# EAGLE library part TCM1-63AX-2+ (library TCM1-63AX-2+)
Audio Transformers / Signal Transformers TC XFMR / SURF MOUNT / RoHS Source: Datasheet <https://www.minicircuits.com/WebStore/dashboardPdf?model=TCM1-63AX-2+>
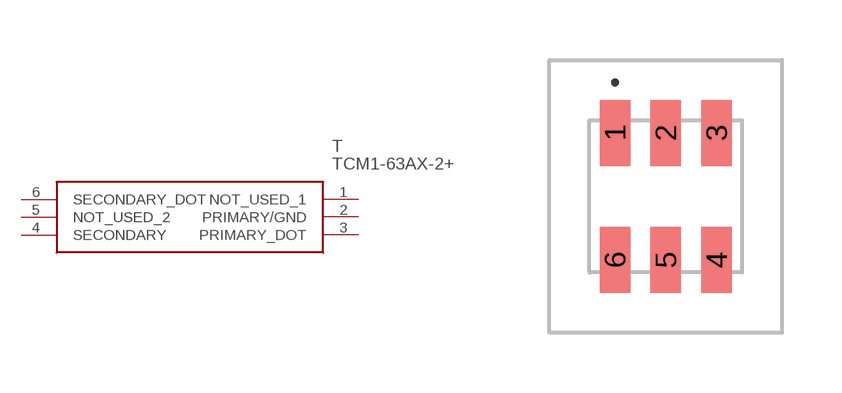
[diagram p0: symbol with the pads of TCM163AX2; footprint TCM163AX2]

Designator prefix T

## TCM1-63AX-2+ (Description: Audio Transformers / Signal Transformers TC XFMR / SURF MOUNT / RoHS; Height: 4.06mm; Manufacturer_Name: Mini-Circuits; Manufacturer_Part_Number: TCM1-63AX-2+; Mouser_Part_Number: 139-TCM1-63AX-2; Mouser_Price-Stock: https://www.mouser.co.uk/ProductDetail/Mini-Circuits/TCM1-63AX-2%2b?qs=xZ%2FP%252Ba9zWqbCeM5gU814pw%3D%3D)  [TCM163AX2]
1  NOT_USED_1
2  PRIMARY/GND
3  PRIMARY_DOT
4  SECONDARY
5  NOT_USED_2
6  SECONDARY_DOT

## Footprint TCM163AX2 (pad centres in mm)
DB1627_2023-1
smd 0.76 x 1.65: 1 -1.27,1.59; 2 0,1.59; 3 1.27,1.59; 4 1.27,-1.59; 5 0,-1.59; 6 -1.27,-1.59